# EAGLE library part PC104_STANDARD (library con-pc104)
PC/104 Standard 16 bit
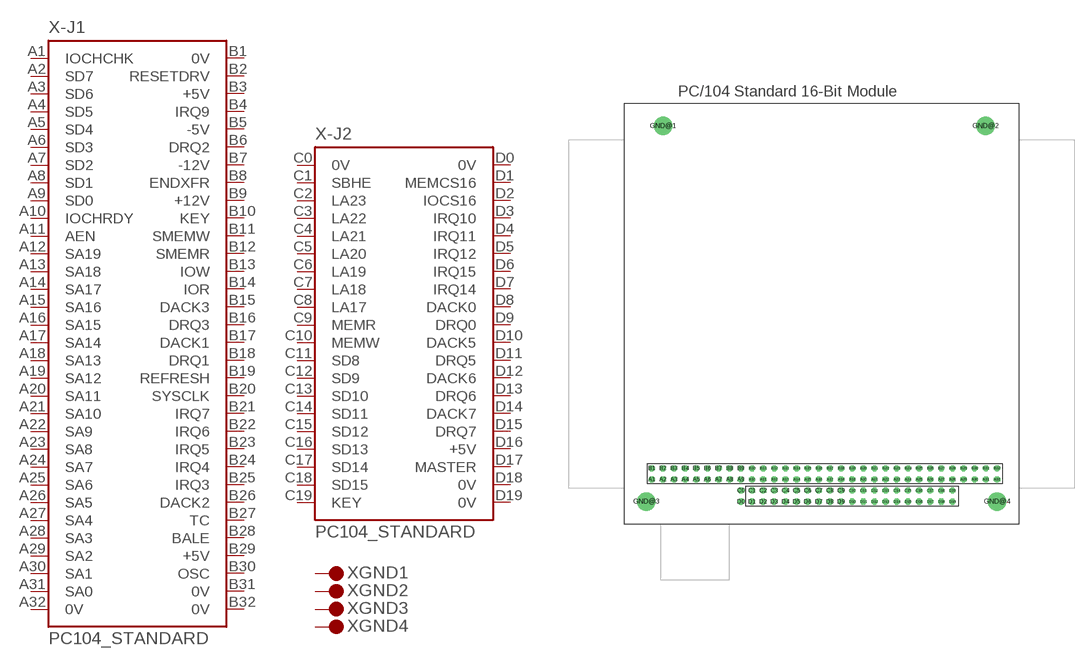
[diagram p0: symbol with the pads of PC104-STANDARD; footprint PC104-STANDARD]

Designator prefix X; gates -J1=PC104-J1 -J2=PC104-J2 GND1=PIN GND2=PIN GND3=PIN GND4=PIN

## PC104_STANDARD1  [PC104-STANDARD]
A1  -J1:IOCHCHK  pas
A2  -J1:SD7  pas
A3  -J1:SD6  pas
A4  -J1:SD5  pas
A5  -J1:SD4  pas
A6  -J1:SD3  pas
A7  -J1:SD2  pas
A8  -J1:SD1  pas
A9  -J1:SD0  pas
A10  -J1:IOCHRDY  pas
A11  -J1:AEN  pas
A12  -J1:SA19  pas
A13  -J1:SA18  pas
A14  -J1:SA17  pas
A15  -J1:SA16  pas
A16  -J1:SA15  pas
A17  -J1:SA14  pas
A18  -J1:SA13  pas
A19  -J1:SA12  pas
A20  -J1:SA11  pas
A21  -J1:SA10  pas
A22  -J1:SA9  pas
A23  -J1:SA8  pas
A24  -J1:SA7  pas
A25  -J1:SA6  pas
A26  -J1:SA5  pas
A27  -J1:SA4  pas
A28  -J1:SA3  pas
A29  -J1:SA2  pas
A30  -J1:SA1  pas
A31  -J1:SA0  pas
A32  -J1:0V  pas
B1  -J1:0V  pas
B2  -J1:RESETDRV  pas
B3  -J1:+5V  pas
B4  -J1:IRQ9  pas
B5  -J1:-5V  pas
B6  -J1:DRQ2  pas
B7  -J1:-12V  pas
B8  -J1:ENDXFR  pas
B9  -J1:+12V  pas
B10  -J1:KEY  pas
B11  -J1:SMEMW  pas
B12  -J1:SMEMR  pas
B13  -J1:IOW  pas
B14  -J1:IOR  pas
B15  -J1:DACK3  pas
B16  -J1:DRQ3  pas
B17  -J1:DACK1  pas
B18  -J1:DRQ1  pas
B19  -J1:REFRESH  pas
B20  -J1:SYSCLK  pas
B21  -J1:IRQ7  pas
B22  -J1:IRQ6  pas
B23  -J1:IRQ5  pas
B24  -J1:IRQ4  pas
B25  -J1:IRQ3  pas
B26  -J1:DACK2  pas
B27  -J1:TC  pas
B28  -J1:BALE  pas
B29  -J1:+5V  pas
B30  -J1:OSC  pas
B31  -J1:0V  pas
B32  -J1:0V  pas
C0  -J2:0V  pas
C1  -J2:SBHE  pas
C2  -J2:LA23  pas
C3  -J2:LA22  pas
C4  -J2:LA21  pas
C5  -J2:LA20  pas
C6  -J2:LA19  pas
C7  -J2:LA18  pas
C8  -J2:LA17  pas
C9  -J2:MEMR  pas
C10  -J2:MEMW  pas
C11  -J2:SD8  pas
C12  -J2:SD9  pas
C13  -J2:SD10  pas
C14  -J2:SD11  pas
C15  -J2:SD12  pas
C16  -J2:SD13  pas
C17  -J2:SD14  pas
C18  -J2:SD15  pas
C19  -J2:KEY  pas
D0  -J2:0V  pas
D1  -J2:MEMCS16  pas
D2  -J2:IOCS16  pas
D3  -J2:IRQ10  pas
D4  -J2:IRQ11  pas
D5  -J2:IRQ12  pas
D6  -J2:IRQ15  pas
D7  -J2:IRQ14  pas
D8  -J2:DACK0  pas
D9  -J2:DRQ0  pas
D10  -J2:DACK5  pas
D11  -J2:DRQ5  pas
D12  -J2:DACK6  pas
D13  -J2:DRQ6  pas
D14  -J2:DACK7  pas
D15  -J2:DRQ7  pas
D16  -J2:+5V  pas
D17  -J2:MASTER  pas
D18  -J2:0V  pas
D19  -J2:0V  pas
GND@1  GND1:1  pas
GND@2  GND2:1  pas
GND@3  GND3:1  pas
GND@4  GND4:1  pas

## Footprint PC104-STANDARD (pad centres in mm)
PC/104 Standard 16 bit
drill 0.9 pad 1.397 octagon: A1 6.35,10.16; A2 8.89,10.16; A3 11.43,10.16; A4 13.97,10.16; A5 16.51,10.16; A6 19.05,10.16; A7 21.59,10.16; A8 24.13,10.16; A9 26.67,10.16; A10 29.21,10.16; A11 31.75,10.16; A12 34.29,10.16; A13 36.83,10.16; A14 39.37,10.16; A15 41.91,10.16; A16 44.45,10.16; A17 46.99,10.16; A18 49.53,10.16; A19 52.07,10.16; A20 54.61,10.16; A21 57.15,10.16; A22 59.69,10.16; A23 62.23,10.16; A24 64.77,10.16; A25 67.31,10.16; A26 69.85,10.16; A27 72.39,10.16; A28 74.93,10.16; A29 77.47,10.16; A30 80.01,10.16; A31 82.55,10.16; A32 85.09,10.16; B1 6.35,12.7; B2 8.89,12.7; B3 11.43,12.7; B4 13.97,12.7; B5 16.51,12.7; B6 19.05,12.7; B7 21.59,12.7; B8 24.13,12.7; B9 26.67,12.7; B10 29.21,12.7; B11 31.75,12.7; B12 34.29,12.7; B13 36.83,12.7; B14 39.37,12.7; B15 41.91,12.7; B16 44.45,12.7; B17 46.99,12.7; B18 49.53,12.7; B19 52.07,12.7; B20 54.61,12.7; B21 57.15,12.7; B22 59.69,12.7; B23 62.23,12.7; B24 64.77,12.7; B25 67.31,12.7; B26 69.85,12.7; B27 72.39,12.7; B28 74.93,12.7; B29 77.47,12.7; B30 80.01,12.7; B31 82.55,12.7; B32 85.09,12.7; C0 26.67,7.62; C1 29.21,7.62; C2 31.75,7.62; C3 34.29,7.62; C4 36.83,7.62; C5 39.37,7.62; C6 41.91,7.62; C7 44.45,7.62; C8 46.99,7.62; C9 49.53,7.62; C10 52.07,7.62; C11 54.61,7.62; C12 57.15,7.62; C13 59.69,7.62; C14 62.23,7.62; C15 64.77,7.62; C16 67.31,7.62; C17 69.85,7.62; C18 72.39,7.62; C19 74.93,7.62; D0 26.67,5.08; D1 29.21,5.08; D2 31.75,5.08; D3 34.29,5.08; D4 36.83,5.08; D5 39.37,5.08; D6 41.91,5.08; D7 44.45,5.08; D8 46.99,5.08; D9 49.53,5.08; D10 52.07,5.08; D11 54.61,5.08; D12 57.15,5.08; D13 59.69,5.08; D14 62.23,5.08; D15 64.77,5.08; D16 67.31,5.08; D17 69.85,5.08; D18 72.39,5.08; D19 74.93,5.08
drill 3.2 pad 4 round: GND@1 8.9,90.8; GND@2 82.5,90.8; GND@3 5.1,5.1; GND@4 85.1,5.1